# Altium schematic symbol library CAP-POLAR.SchLib: 1 symbol
Pins are listed as number, name and electrical type; pins without a type are passive.

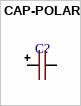
[diagram p0: symbol CAP-POLAR]

## CAP-POLAR
designator C?
footprint 4700uF_100V
pins: 1 +, 2 -